# Altium footprint library Nuc977-Board.PcbLib: 39 footprints (part 3 of 3)
Each footprint in its own frame and in the unit in brackets; x right, y up, seen from the top. Pads: shape width x height; smd on the part's side, far side on the other; paste and mask are expansions set on the pad; w line width, h text height; cw(c..) or ccw(c..) is an arc to the next point about the centre after c.
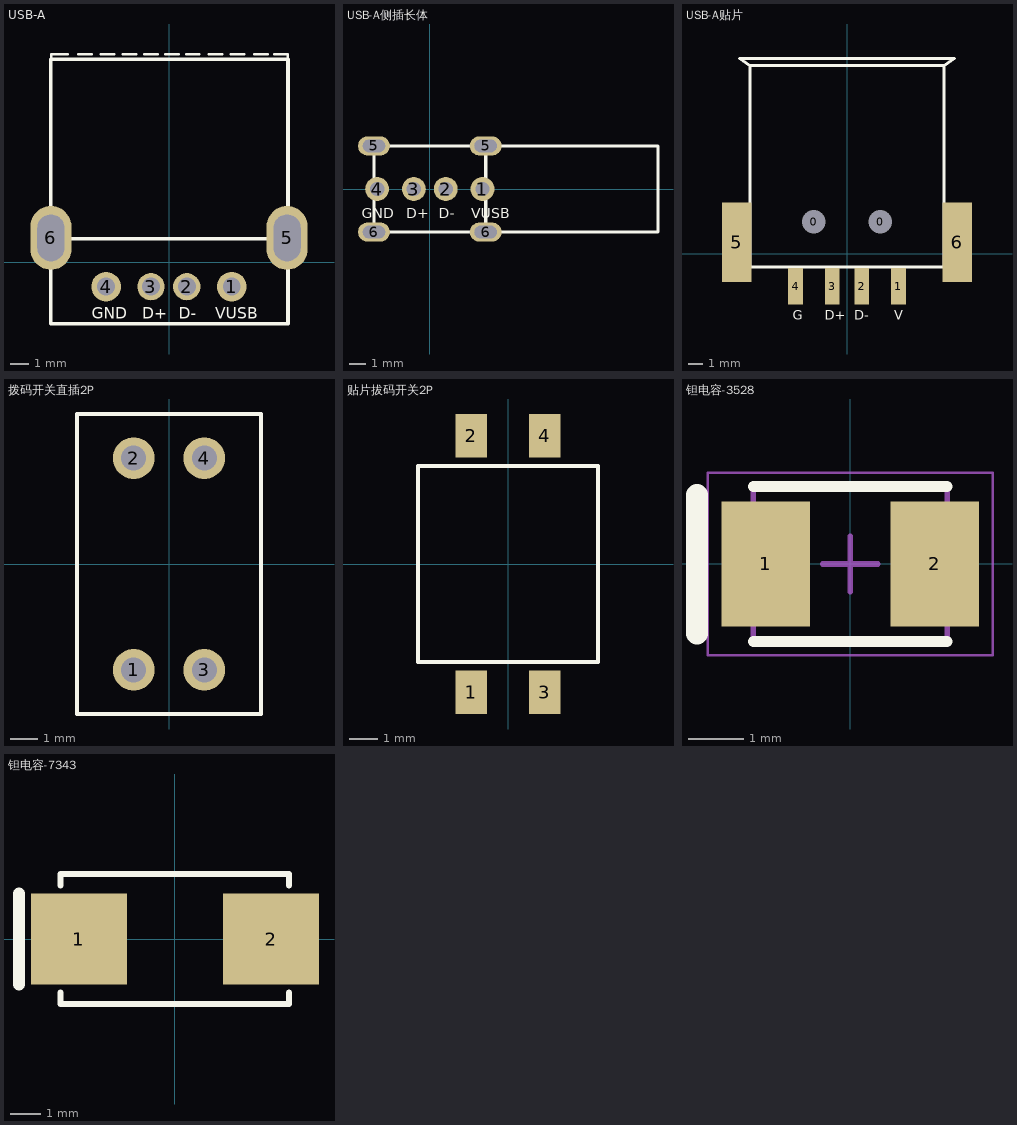
[diagram p2: the footprints below, top view; thin cyan lines are the x and y axes]

## USB-A [mil]
pads (6):
  round 65 hole 39.37: 1(137.6,-53.5) 4(-138,-53.5)
  round 60 hole 39.37: 2(39,-53.5) 3(-39.5,-53.5)
  oval 90x140 hole 59.06 slot 102.36 at 90 deg: 5(259,53.5) 6(-259,53.5)
Top Overlay:
  lines w6: -258.4,444.5 -258.4,456.5 -222.4,456.5 ; -198.4,456.5 -169.4,456.5 ; -149.4,456.5 -120.4,456.5 ; -101.4,456.5 -72.4,456.5 ; -54.4,456.5 -25.4,456.5 ; -8.4,456.5 20.6,456.5 ; 37.6,456.5 66.6,456.5 ; 87.6,456.5 116.6,456.5 ; 135.6,456.5 164.6,456.5 ; 187.6,456.5 216.6,456.5 ; 230.6,456.5 260.6,456.5 260.6,444.5
  lines w8: -259,53.5 -259,-135 261,-135 261,445 -259,445 -259,53.1 -257.4,51.5 257.6,51.5
  text "GND" at -168.9,-124 h25
  text "D+" at -58.9,-124 h25
  text "D-" at 21.1,-124 h25
  text "VUSB" at 101.1,-124 h25
Mechanical 11:
  text "2" at 39,-43.5 h25
  text "3" at -39.5,-43.5 h25
  text "1" at 137.6,-43.5 h25
  text "6" at -259,63.5 h25
  text "4" at -138,-43.5 h25
  text "5" at 259,63.5 h25
3D body: height 236.22, standoff 3.94, extent -255.91,-133.86 259.84,444.88

## USB-A侧插长体 [mm]
pads (8):
  round 1.5 hole 0.9: 1(3.3,0) 2(1,0) 3(-1,0) 4(-3.3,0)
  oval 2x1.2 hole 0.8 slot 1.4 at 0 deg: 5(-3.5,2.7) 5(3.5,2.7) 6(-3.5,-2.7) 6(3.5,-2.7)
Top Overlay:
  lines w0.2: 3.5,-2.7 3.5,2.7 ; 3.5,2.7 -3.5,2.7 -3.5,-2.7 14.3,-2.7 14.3,2.7 3.5,2.7
  text "GND" at -4.262,-1.841 h0.64
  text "D+" at -1.468,-1.841 h0.64
  text "D-" at 0.564,-1.841 h0.64
  text "VUSB" at 2.596,-1.841 h0.64
Mechanical 11:
  text "2" at 1.019,0.204 h0.64
  text "3" at -0.975,0.204 h0.64
  text "1" at 3.523,0.204 h0.64
  text "4" at -3.477,0.204 h0.64
3D body: height 14.6, standoff 0.1, extent -3.5,-2.7 14.275,2.7

## USB-A贴片 [mm]
pads (8):
  round 1 hole 1.6 unplated: 0(-2.25,2.2) 0(2.25,2.2)
  rect 1x2.5 smd: 1(3.5,-2.2) 2(1,-2.2) 3(-1,-2.2) 4(-3.5,-2.2)
  rect 2x5.4 smd: 5(-7.5,0.8) 6(7.5,0.8)
Top Overlay:
  lines w0.2: -6.6,3.3 -7.9,3.3 -7.9,-0.8 -7.9,-0.9 -6.6,-0.9 ; 6.6,3.3 7.9,3.3 7.9,-0.9 6.6,-0.9 ; -6.6,-0.9 6.6,-0.9 ; -6.6,-0.9 -6.6,12.8 ; -6.6,12.8 6.6,12.8 ; -6.6,12.8 -7.3,13.3 7.3,13.3 6.6,12.8 ; 6.6,-0.9 6.6,12.8
  text "G" at -3.7,-4.471 h0.64
  text "D+" at -1.5,-4.471 h0.64
  text "D-" at 0.5,-4.471 h0.64
  text "V" at 3.2,-4.471 h0.64
3D body: height 6, standoff 0.1, extent -6.6,-0.7 6.6,12.8

## 拨码开关直插2P [mm]
pads (4):
  round 1.5 hole 0.9: 1(-1.27,-3.81) 2(-1.27,3.81) 3(1.27,-3.81) 4(1.27,3.81)
Top Overlay:
  lines w0.15: -3.31,-5.4 3.31,-5.4 3.31,5.4 -3.31,5.4 -3.31,-5.4

## 贴片拔码开关2P [mm]
pads (4):
  rect 1.1x1.5 smd: 1(-1.27,-4.45) 2(-1.27,4.45) 3(1.27,-4.45) 4(1.27,4.45)
Top Overlay:
  lines w0.15: -3.12,-3.4 3.12,-3.4 3.12,3.4 -3.12,3.4 -3.12,-3.4
3D body: height 2.5, standoff 0.5, extent -3.099,-3.404 3.099,3.404
3D body: height 3.5, standoff 0.1, extent -1.778,-1.778 -0.635,1.905
3D body: height 3.5, standoff 0.1, extent 0.749,-1.765 1.892,1.918

## 钽电容-3528 [mm] "Molded Capacitor, 2-Leads, Body 3.50x2.80mm, IPC Medium Density"
height 1.9
pads (2):
  rect 1.6x2.25 smd: 1(-1.525,0) 2(1.525,0)
Top Overlay:
  lines w0.2: -1.75,-1.4 1.75,-1.4 ; -1.75,1.4 1.75,1.4
  lines w0.4: -2.769,-1.255 -2.769,1.245
Mechanical 13:
  lines w0.1: -1.75,-1.4 -1.75,1.4 1.75,1.4 1.75,-1.4 -1.75,-1.4
Mechanical 15:
  lines w0.05: -2.575,-1.65 -2.575,1.65 2.575,1.65 2.575,-1.65 -2.575,-1.65
  lines w0.1: -0.5,0 0.5,0 ; 0,-0.5 0,0.5
3D body: height 1.9, standoff 0, extent -1.75,-1.4 1.75,1.4

## 钽电容-7343 [mm]
pads (2):
  rect 3.2x3.05 smd: 1(-3.202,0) 2(3.202,0)
Top Overlay:
  lines w0.2: -3.81,-1.778 -3.81,-2.159 3.81,-2.159 3.81,-1.778 ; -3.81,1.778 -3.81,2.159 3.81,2.159 3.81,1.778
  lines w0.4: -5.2,-1.525 -5.2,1.523
3D body "User Library-AVX_D_CASE.step": height 3.01, standoff 0, extent -3.827,-2.159 3.573,2.291